# Altium integrated library 1KSMB39CA.IntLib: 2 symbols
Pins are listed as number, name and electrical type; pins without a type are passive.

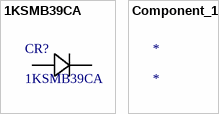
[diagram p0: symbols 1KSMB39CA to Component_1]

## 1KSMB39CA
designator CR?
No Description Available; Mfr_Name: Littelfuse Inc; Type: DEV; Copyright: Copyright (C) 2021 Ultra Librarian. All rights reserved.; Manufacturer_Part_Number: 1KSMB39CA; RefDes: RefDes
footprint 1KSMBSeries_LTF
pins: 1 11, 2 12

## Component_1
designator *